# EAGLE library part ADAFRUIT-TRINKET-3.3V (library BOBs)
Adafruit Trinket - Mini Microcontroller - 3.3V Logic
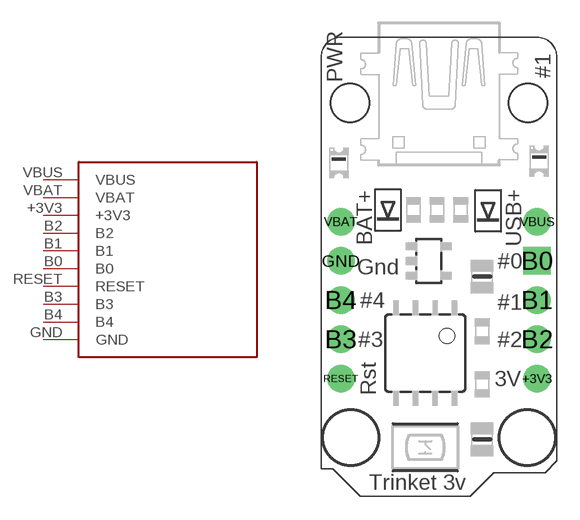
[diagram p5: symbol with the pads of ADAFRUIT-TRINKET-3.3V; footprint ADAFRUIT-TRINKET-3.3V]

Designator prefix -

## ADAFRUIT-TRINKET-3.3V-BOB (DIST: Adafruit; DISTPN: 1500)  [ADAFRUIT-TRINKET-3.3V]
+3V3  +3V3
B0  B0
B1  B1
B2  B2
B3  B3
B4  B4
GND  GND
RESET  RESET
VBAT  VBAT
VBUS  VBUS

## Footprint ADAFRUIT-TRINKET-3.3V (pad centres in mm)
drill 1.016 pad 1.778: +3V3 6.35,-6.35; B1 6.35,-1.27; B2 6.35,-3.81; B3 -6.35,-3.81; B4 -6.35,-1.27; GND -6.35,1.27; RESET -6.35,-6.35; VBAT -6.35,3.81; VBUS 6.35,3.81
drill 1.016 pad 1.778 square: B0 6.35,1.27